# Altium integrated library Linear Technology Power Management PMIC Multifunction.IntLib: 360 symbols (part 9 of 42)
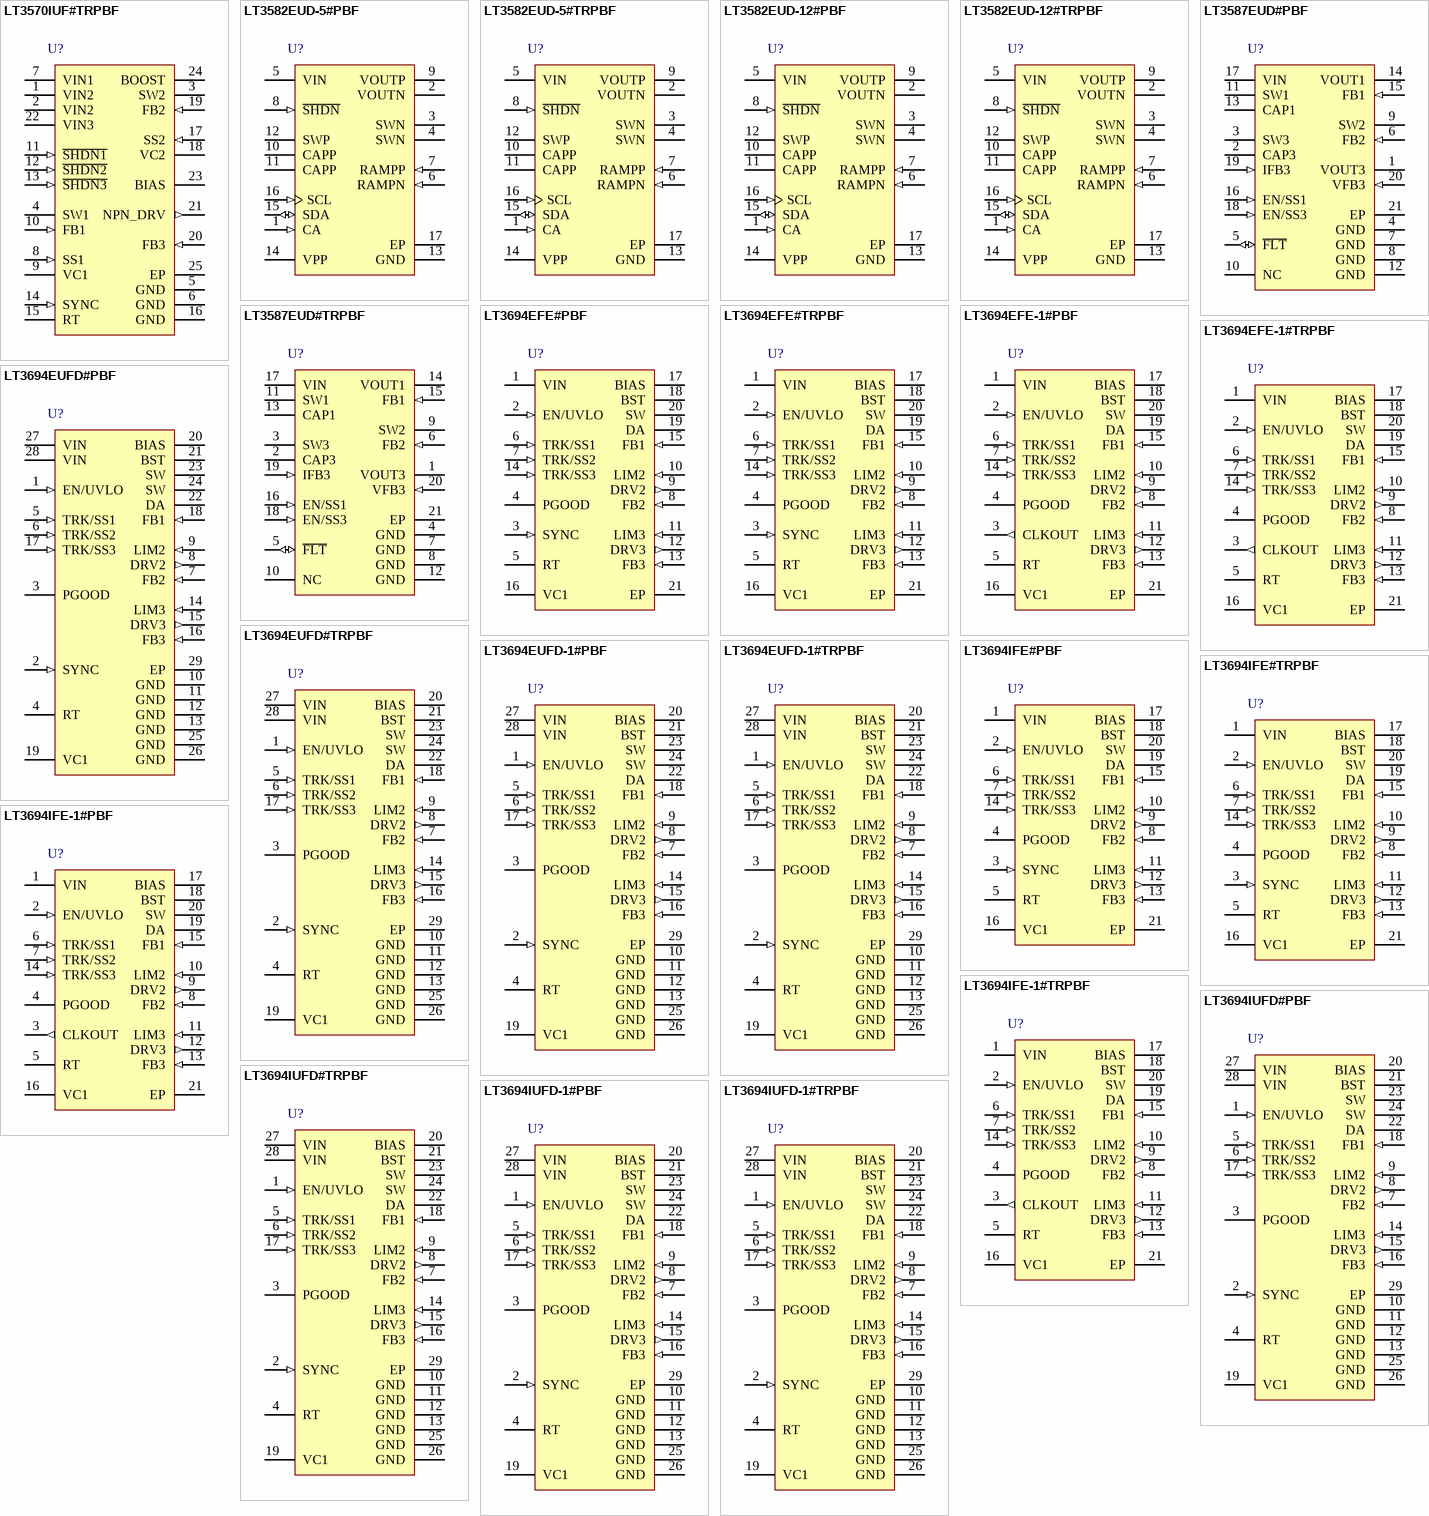
[diagram p26: symbols LT3570IUF#TRPBF to LT3694IUFD-1#TRPBF]

## LT3582EUD-12#TRPBF
designator U?
I2C Programmable Boost and Single Inductor Inverting DC/DC Converter with OTP, 2.475 to 5.5 V Vin, 16-pin QFN (UD-16), -40 to 125 degC, Pb-Free, Tape and Reel; Manufacturer: Linear Technology; PartNumber: LT3582EUD-12#TRPBF; Number of Outputs: 2; Vin Max(V): 5.5; Vin Min(V): 2.475; DatasheetVersion: Rev. B; PackageVersion: Jun-10; PackageReference: UD-16; PackageDescription: 16-Pin Plastic QFN, Body 3 x 3 mm, Pitch 0.5 mm; Supplier 1: Digi-Key; Supplier Part Number 1: LT3582EUD-12#TRPBF-ND; Supplier 2: Newark; Supplier Part Number 2: 25R2867; Packing: Tape and Reel; RoHS: TRUE; Mounting Technology: Surface Mount; Code_JEDEC: MO-220; ComponentLink1Description: Manufacturer URL; ComponentLink1URL: http://www.linear.com/; ComponentLink2Description: Datasheet; ComponentLink2URL: linear.com/docs/en/datasheet/3582512fb.pdf; ComponentLink3Description: Package Specification; ComponentLink3URL: http://cds.linear.com/docs/en/packaging/QFN_16_05-08-1691.pdf
footprint LT-UD-16_N (QFN, 16-Leads, Body 3x3mm, Pitch 0.5mm, Thermal Pad 1.45x1.45mm, IPC Medium Density)
footprint LT-UD-16_L (QFN, 16-Leads, Body 3x3mm, Pitch 0.5mm, Thermal Pad 1.45x1.45mm, IPC High Density)
footprint LT-UD-16_M (QFN, 16-Leads, Body 3x3mm, Pitch 0.5mm, Thermal Pad 1.45x1.45mm, IPC Low Density)
pins: 1 CA (in) "I2C Address Select Pin. Tie this pin to VIN to set the 7-bit address to 0110 001. Tie to GND for 1000 101.", 2 VOUTN (power) "Negative Output Voltage Pin. When the converter is operating, this pin is regulated to the programmed negative output voltage. Place a ceramic capacitor from this pin to GND.", 3 SWN (power) "Negative Switching Node for the Inverting Converter. This is the drain of the internal PMOS power switch. Connect one end of the Inverting inductor to these pins. Keep the trace area on these pins as small as possible.", 4 SWN (power) "Negative Switching Node for the Inverting Converter. This is the drain of the internal PMOS power switch. Connect one end of the Inverting inductor to these pins. Keep the trace area on these pins as small as possible.", 5 VIN (power) "Input Supply Pin and Source of the PMOS Power Switch. This pin must be bypassed locally with a ceramic capacitor. The operating voltage range of this pin is 2.55V to 5.5V.", 6 RAMPN (in) "Soft-Start Ramp Pin for the Inverting Converter. Place a capacitor from this pin to GND. A programmable current of 1uA to 8uA (LT3582) or 1uA (LT3582-5/LT3582-12) charges this pin during start-up, limiting the ramp rate of (See Datasheet)", 7 RAMPP (in) "Soft-Start Ramp Pin for the Boost Converter. Place a capacitor from this pin to GND. A programmable current of 1uA to 8uA (LT3582) or 1uA (LT3582-5/LT3582-12) charges this pin during start-up, limiting the ramp rate of VOUTP.(See Datasheet)", 8 ~{SHDN} (in) "Shutdown Pin. Drive this pin to 1.1V or higher to enable the part. Drive to 0.3V or lower to shut down. Includes an integrated 222k pull-down resistor.", 9 VOUTP (power) "Output of the Boost Converter Output Disconnect Circuit. A ceramic capacitor should be placed from this node to GND. During shutdown, this pin is disconnected from the Boost network which allows this pin to discharge to GND, (See Datasheet)", 10 CAPP "Connect the Boost output capacitor from these pins to GND. During shutdown, the voltage on these pins will remain close to the input voltage due to the path through the Boost inductor and Schottky. During normal operation, (See Datasheet)", 11 CAPP "Connect the Boost output capacitor from these pins to GND. During shutdown, the voltage on these pins will remain close to the input voltage due to the path through the Boost inductor and Schottky. During normal operation, (See Datasheet)", 12 SWP (power) "Positive Switching Node for the Boost Converter. This is the drain of the internal NMOS power switch. Connect one end of the Boost inductor to this pin. Keep the trace area on this pin as small as possible.", 13 GND (power) "Ground Pin. Tie to a local ground plane. Proper PCB layout is required to achieve advertised performance; see the Applications Information section for more information.", 14 VPP (power) "Programming Voltage Pin. Drive this pin to 13-15V when programming the OTP memory. Float otherwise. A bypass capacitor should be placed from this node to GND if VPP is used for programming. If VPP falls below 13V during OTP (See Datasheet)", 15 SDA (io) "I2C Bidirectional Data Pin. Tie to GND or VIN if unused", 16 SCL (in) "I2C Clock Pin. Tie to GND or VIN if unused.", 17 EP (power) "Ground Pin. Tie to a local ground plane. Proper PCB layout is required to achieve advertised performance; see the Applications Information section for more information."

## LT3587EUD#PBF
designator U?
High Voltage Monolithic Inverter and Dual Boost, 2.5 to 6 V Vin, 20-pin QFN (UD-20), -40 to 125 degC, Pb-Free; Manufacturer: Linear Technology; PartNumber: LT3587EUD#PBF; Number of Outputs: 3; Vin Max(V): 6; Vin Min(V): 2.5; DatasheetVersion: Rev. C; PackageVersion: Rev. A, 06/2010; PackageReference: UD-20; PackageDescription: 20-Pin Plastic QFN, Body 3 x 3 mm, Pitch 0.4 mm; Supplier 1: Digi-Key; Supplier Part Number 1: LT3587EUD#PBF-ND; RoHS: TRUE; Mounting Technology: Surface Mount; ComponentLink1Description: Manufacturer URL; ComponentLink1URL: http://www.linear.com/; ComponentLink2Description: Datasheet; ComponentLink2URL: http://cds.linear.com/docs/en/datasheet/3587fc.pdf; ComponentLink3Description: Package Specification; ComponentLink3URL: http://cds.linear.com/docs/en/packaging/QFN_20_05-08-1720.pdf
footprint LT-UD-20_N (QFN, 20-Leads, Body 3.1x3.1mm, Pitch 0.4mm, Thermal Pad 1.65x1.65mm, IPC Medium Density)
footprint LT-UD-20_L (QFN, 20-Leads, Body 3.1x3.1mm, Pitch 0.4mm, Thermal Pad 1.65x1.65mm, IPC High Density)
footprint LT-UD-20_M (QFN, 20-Leads, Body 3.1x3.1mm, Pitch 0.4mm, Thermal Pad 1.65x1.65mm, IPC Low Density)
pins: 1 VOUT3 (power) "Boost3 Output Pin. This pin is the drain of an output disconnect PMOS transistor", 2 CAP3 "Boost3 Output Capacitor Pin. This pin is the source of an output PMOS disconnect. Connect a capacitor from this pin to ground.", 3 SW3 "Boost3 Switch Pin. Connect an inductor from this pin to VIN. Minimize trace area at this pin to  minimize EMI.", 4 GND (power) "Ground Pins.", 5 ~{FLT} (io) "Fault Pin. This pin is a bidirectional opendrain pull-down pin. This pin pulls low when any of the enabled outputs fall out of regulation for more than 16ms. Each output is ignored during start-up until its respective (See Datasheet)", 6 FB2 (in) "Inverter Output Voltage Feedback Pin. Connect a resistor RFB2 from this pin to the Inverter Output  (VNEG) such that:  RFB2 = |VNEG|/8uA Note that FB2 pin voltage is about 0V when in regulation.  There is an internal 153k (See Datasheet)", 7 GND (power) "Ground Pins.", 8 GND (power) "Ground Pins.", 9 SW2 "Inverter Switch Pin. Connect an inductor between this pin and VIN, as well as the ?ying capacitor from this pin to the anode of the lnverter ground return  diode. Minimize trace area at this pin to minimize EMI.", 10 NC "No Connect Pin. Leave open or connect to ground.", 11 SW1 "Boost1 Switch Pin. Connect an inductor from this pin to VIN. Minimize trace area at this pin to minimize EMI.", 12 GND (power) "Ground Pins.", 13 CAP1 "Boost1 Output Capacitor Pin. This pin is the source of an output PMOS disconnect. Connect a capacitor from this pin to ground.", 14 VOUT1 (power) "Boost1 Output Pin. This pin is the drain of an output disconnect PMOS transistor.", 15 FB1 (in) "Boost1 Output Voltage Feedback Pin. Connect a resistor RFB1 from this pin to VOUT1 (or CAP1) such that:  RFB1 = ((VVOUT1/1.22V) - 1) ? 88.5k There is an internal 88.5k resistor from the FB1 pin to ground.", 16 EN/SS1 (in) "Boost1/Inverter Shutdown and Soft-Start Pin. Boost1 and Inverter are enabled when the voltage on this pin is greater than 2.5V. They are disabled when the voltage is below 0.2V. An internal 1uA current source in conjunction (See Datasheet)", 17 VIN (power) "Input Supply Pin. Must be locally bypassed with an X5R or X7R type ceramic capacitor", 18 EN/SS3 (in) "Boost3 Shutdown and Soft-Start Pin. Boost3 is enabled when the voltage on this pin is greater than 2V. It is disabled when the voltage is below 0.2V. An  internal 1uA current source in conjunction with an external capacitor (See Datasheet)", 19 IFB3 (in) "Boost3 Output Current Programming Pin.", 20 VFB3 (in) "Boost3 Output Voltage Feedback Pin. Connect a resistor RVFB3 from this pin to VOUT3 (or CAP3) such that:  RVFB3 = ((VVOUT3/0.8V) - 1) ? 56.3k There is an internal 56.3k resistor from the VFB3 pin to  ground. In the curren(See Datasheet)", 21 EP (power) "Ground Pin. Connect to PCB ground plane. Ground plane connection through multiple vias under the package is recommended for optimum electrical and  thermal performance."

## LT3587EUD#TRPBF
designator U?
High Voltage Monolithic Inverter and Dual Boost, 2.5 to 6 V Vin, 20-pin QFN (UD-20), -40 to 125 degC, Pb-Free, Tape and Reel; Manufacturer: Linear Technology; PartNumber: LT3587EUD#TRPBF; Number of Outputs: 3; Vin Max(V): 6; Vin Min(V): 2.5; DatasheetVersion: Rev. C; PackageVersion: Rev. A, 06/2010; PackageReference: UD-20; PackageDescription: 20-Pin Plastic QFN, Body 3 x 3 mm, Pitch 0.4 mm; Supplier 1: Digi-Key; Supplier Part Number 1: LT3587EUD#TRPBF-ND; Packing: Tape and Reel; RoHS: TRUE; Mounting Technology: Surface Mount; ComponentLink1Description: Manufacturer URL; ComponentLink1URL: http://www.linear.com/; ComponentLink2Description: Datasheet; ComponentLink2URL: http://cds.linear.com/docs/en/datasheet/3587fc.pdf; ComponentLink3Description: Package Specification; ComponentLink3URL: http://cds.linear.com/docs/en/packaging/QFN_20_05-08-1720.pdf
footprint LT-UD-20_N (QFN, 20-Leads, Body 3.1x3.1mm, Pitch 0.4mm, Thermal Pad 1.65x1.65mm, IPC Medium Density)
footprint LT-UD-20_L (QFN, 20-Leads, Body 3.1x3.1mm, Pitch 0.4mm, Thermal Pad 1.65x1.65mm, IPC High Density)
footprint LT-UD-20_M (QFN, 20-Leads, Body 3.1x3.1mm, Pitch 0.4mm, Thermal Pad 1.65x1.65mm, IPC Low Density)
pins: 1 VOUT3 (power) "Boost3 Output Pin. This pin is the drain of an output disconnect PMOS transistor", 2 CAP3 "Boost3 Output Capacitor Pin. This pin is the source of an output PMOS disconnect. Connect a capacitor from this pin to ground.", 3 SW3 "Boost3 Switch Pin. Connect an inductor from this pin to VIN. Minimize trace area at this pin to  minimize EMI.", 4 GND (power) "Ground Pins.", 5 ~{FLT} (io) "Fault Pin. This pin is a bidirectional opendrain pull-down pin. This pin pulls low when any of the enabled outputs fall out of regulation for more than 16ms. Each output is ignored during start-up until its respective (See Datasheet)", 6 FB2 (in) "Inverter Output Voltage Feedback Pin. Connect a resistor RFB2 from this pin to the Inverter Output  (VNEG) such that:  RFB2 = |VNEG|/8uA Note that FB2 pin voltage is about 0V when in regulation.  There is an internal 153k (See Datasheet)", 7 GND (power) "Ground Pins.", 8 GND (power) "Ground Pins.", 9 SW2 "Inverter Switch Pin. Connect an inductor between this pin and VIN, as well as the ?ying capacitor from this pin to the anode of the lnverter ground return  diode. Minimize trace area at this pin to minimize EMI.", 10 NC "No Connect Pin. Leave open or connect to ground.", 11 SW1 "Boost1 Switch Pin. Connect an inductor from this pin to VIN. Minimize trace area at this pin to minimize EMI.", 12 GND (power) "Ground Pins.", 13 CAP1 "Boost1 Output Capacitor Pin. This pin is the source of an output PMOS disconnect. Connect a capacitor from this pin to ground.", 14 VOUT1 (power) "Boost1 Output Pin. This pin is the drain of an output disconnect PMOS transistor.", 15 FB1 (in) "Boost1 Output Voltage Feedback Pin. Connect a resistor RFB1 from this pin to VOUT1 (or CAP1) such that:  RFB1 = ((VVOUT1/1.22V) - 1) ? 88.5k There is an internal 88.5k resistor from the FB1 pin to ground.", 16 EN/SS1 (in) "Boost1/Inverter Shutdown and Soft-Start Pin. Boost1 and Inverter are enabled when the voltage on this pin is greater than 2.5V. They are disabled when the voltage is below 0.2V. An internal 1uA current source in conjunction (See Datasheet)", 17 VIN (power) "Input Supply Pin. Must be locally bypassed with an X5R or X7R type ceramic capacitor", 18 EN/SS3 (in) "Boost3 Shutdown and Soft-Start Pin. Boost3 is enabled when the voltage on this pin is greater than 2V. It is disabled when the voltage is below 0.2V. An  internal 1uA current source in conjunction with an external capacitor (See Datasheet)", 19 IFB3 (in) "Boost3 Output Current Programming Pin.", 20 VFB3 (in) "Boost3 Output Voltage Feedback Pin. Connect a resistor RVFB3 from this pin to VOUT3 (or CAP3) such that:  RVFB3 = ((VVOUT3/0.8V) - 1) ? 56.3k There is an internal 56.3k resistor from the VFB3 pin to  ground. In the curren(See Datasheet)", 21 EP (power) "Ground Pin. Connect to PCB ground plane. Ground plane connection through multiple vias under the package is recommended for optimum electrical and  thermal performance."

## LT3694EFE#PBF
designator U?
2.6 A Monolithic Buck Regulator with Dual LDO, 4 to 36 V Vin, 20-pin SOP (FE-20-EPV-CB), -40 to 125 degC, Pb-Free; Manufacturer: Linear Technology; PartNumber: LT3694EFE#PBF; Number of Outputs: 3; Vin Max(V): 36; Vin Min(V): 4; DatasheetVersion: Rev. B; PackageVersion: Rev. I, 05/2011; PackageReference: FE-20; PackageDescription: 20-Pin Plastic TSSOP, Body 6.5 x 4.4 mm, Pitch 0.65 mm; Supplier 1: Digi-Key; Supplier Part Number 1: LT3694EFE#PBF-ND; Supplier 2: Farnell; Supplier Part Number 2: 1868080; Supplier 3: Newark; Supplier Part Number 3: 13T8526; RoHS: TRUE; Mounting Technology: Surface Mount; ComponentLink1Description: Manufacturer URL; ComponentLink1URL: http://www.linear.com/; ComponentLink2Description: Datasheet; ComponentLink2URL: http://cds.linear.com/docs/en/datasheet/36941fb.pdf; ComponentLink3Description: Package Specification; ComponentLink3URL: http://cds.linear.com/docs/en/packaging/05081663__J_FE20(CB).pdf
footprint LT-FE-20-EPV-CB_N (SOP, 20-Leads, Body 6.6x4.5mm, Pitch 0.65mm, Thermal Pad 3.86x2.74mm, IPC Medium Density)
footprint LT-FE-20-EPV-CB_L (SOP, 20-Leads, Body 6.6x4.5mm, Pitch 0.65mm, Thermal Pad 3.86x2.74mm, IPC High Density)
footprint LT-FE-20-EPV-CB_M (SOP, 20-Leads, Body 6.6x4.5mm, Pitch 0.65mm, Thermal Pad 3.86x2.74mm, IPC Low Density)
pins: 1 VIN (power) "The VIN pin supplies power to the internal switch of the 2.6A regulator and to the LT3694’s internal reference and start-up circuitry. This pin must be locally bypassed.", 2 EN/UVLO (in) "The EN/UVLO pin is used to shut down the LT3694. It can be driven from a logic level or used as an undervoltage lockout by connecting a resistor divider from VIN.", 3 SYNC (in) "Frequency Synchronization Input. Connect a frequency source to this input if synchronization is desired. Connect SYNC to ground if not used (LT3694 only).", 4 PGOOD (oc) "Open Collector Output. PGOOD is pulled low when any of the three regulators drops out of regulation (VFB < 90% of nominal value).", 5 RT "The RT pin requires a resistor to ground to set the operating frequency of the LT3694. If synchronizing the LT3694 to an external clock, the resistor should be set to program the frequency at least 20% below the (See Datasheet)", 6 TRK/SS1 (in) "The TRK/SS pins allow a regulator to track the output of another regulator. When the TRK/SS pin is below 0.75V, the FB pin regulates to the TRK/SS voltage. This pin can also be used as a soft-start by connecting a capacitor (See Datasheet)", 7 TRK/SS2 (in) "The TRK/SS pins allow a regulator to track the output of another regulator. When the TRK/SS pin is below 0.75V, the FB pin regulates to the TRK/SS voltage. This pin can also be used as a soft-start by connecting a capacitor (See Datasheet)", 8 FB2 (in) "Negative Inputs of the Error Amplifiers. The LT3694 regulates each feedback pin to the lesser of 0.75V or the corresponding TRK/SS pin voltage. Connect the feedback resistor divider taps to these pins.", 9 DRV2 (out) "The DRV pins provide the base drive for the external NPN transistors for the LDO regulators. The DRV pins can provide up to 6V of base drive.", 10 LIM2 (in) "The LIM pins provide current limiting on the LDO pass transistors by sensing a voltage on an external sense resistor connected to the BIAS pin. These pins should be connected to BIAS if this function is not used.", 11 LIM3 (in) "The LIM pins provide current limiting on the LDO pass transistors by sensing a voltage on an external sense resistor connected to the BIAS pin. These pins should be connected to BIAS if this function is not used.", 12 DRV3 (out) "The DRV pins provide the base drive for the external NPN transistors for the LDO regulators. The DRV pins can provide up to 6V of base drive.", 13 FB3 (in) "Negative Inputs of the Error Amplifiers. The LT3694 regulates each feedback pin to the lesser of 0.75V or the corresponding TRK/SS pin voltage. Connect the feedback resistor divider taps to these pins.", 14 TRK/SS3 (in) "The TRK/SS pins allow a regulator to track the output of another regulator. When the TRK/SS pin is below 0.75V, the FB pin regulates to the TRK/SS voltage. This pin can also be used as a soft-start by connecting a capacitor (See Datasheet)", 15 FB1 (in) "Negative Inputs of the Error Amplifiers. The LT3694 regulates each feedback pin to the lesser of 0.75V or the corresponding TRK/SS pin voltage. Connect the feedback resistor divider taps to these pins.", 16 VC1 "Output of the Internal Error Amp. The voltage on this pin controls the peak switch current. This pin is normally used to compensate the control loop. The switching regulator can be shut down by pulling the VC1 pin to ground (See Datasheet)", 17 BIAS (power) "The BIAS pin supplies the current to the LT3694’s internal regulator and boost circuits. This must be connected to a voltage source above 3V, usually to VOUT1. The LDO pass transistor base current will also come from th(See Datasheet)", 18 BST "The BST pin is used to provide a drive voltage, higher than the input voltage, to the internal bipolar NPN power switch.", 19 DA "The DA pin senses the catch diode current to prevent excessive inductor current in output overload or short-circuit conditions.", 20 SW (power) "Output of the Internal Power Switch. Connect this pin to the inductor and switching diode.", 21 EP (power) "Ground. The underside exposed pad metal of the package provides both electrical contact to ground and a conductive thermal path to the printed circuit board. The Exposed Pad must be soldered to a grounded pad on the circuit (See Datasheet)"

## LT3694EFE#TRPBF
designator U?
2.6 A Monolithic Buck Regulator with Dual LDO, 4 to 36 V Vin, 20-pin SOP (FE-20-EPV-CB), -40 to 125 degC, Pb-Free, Tape and Reel; Manufacturer: Linear Technology; PartNumber: LT3694EFE#TRPBF; Number of Outputs: 3; Vin Max(V): 36; Vin Min(V): 4; DatasheetVersion: Rev. B; PackageVersion: Rev. I, 05/2011; PackageReference: FE-20; PackageDescription: 20-Pin Plastic TSSOP, Body 6.5 x 4.4 mm, Pitch 0.65 mm; Supplier 1: Digi-Key; Supplier Part Number 1: LT3694EFE#TRPBF-ND; Packing: Tape and Reel; RoHS: TRUE; Mounting Technology: Surface Mount; ComponentLink1Description: Manufacturer URL; ComponentLink1URL: http://www.linear.com/; ComponentLink2Description: Datasheet; ComponentLink2URL: http://cds.linear.com/docs/en/datasheet/36941fb.pdf; ComponentLink3Description: Package Specification; ComponentLink3URL: http://cds.linear.com/docs/en/packaging/05081663__J_FE20(CB).pdf
footprint LT-FE-20-EPV-CB_N (SOP, 20-Leads, Body 6.6x4.5mm, Pitch 0.65mm, Thermal Pad 3.86x2.74mm, IPC Medium Density)
footprint LT-FE-20-EPV-CB_L (SOP, 20-Leads, Body 6.6x4.5mm, Pitch 0.65mm, Thermal Pad 3.86x2.74mm, IPC High Density)
footprint LT-FE-20-EPV-CB_M (SOP, 20-Leads, Body 6.6x4.5mm, Pitch 0.65mm, Thermal Pad 3.86x2.74mm, IPC Low Density)
pins: 1 VIN (power) "The VIN pin supplies power to the internal switch of the 2.6A regulator and to the LT3694’s internal reference and start-up circuitry. This pin must be locally bypassed.", 2 EN/UVLO (in) "The EN/UVLO pin is used to shut down the LT3694. It can be driven from a logic level or used as an undervoltage lockout by connecting a resistor divider from VIN.", 3 SYNC (in) "Frequency Synchronization Input. Connect a frequency source to this input if synchronization is desired. Connect SYNC to ground if not used (LT3694 only).", 4 PGOOD (oc) "Open Collector Output. PGOOD is pulled low when any of the three regulators drops out of regulation (VFB < 90% of nominal value).", 5 RT "The RT pin requires a resistor to ground to set the operating frequency of the LT3694. If synchronizing the LT3694 to an external clock, the resistor should be set to program the frequency at least 20% below the (See Datasheet)", 6 TRK/SS1 (in) "The TRK/SS pins allow a regulator to track the output of another regulator. When the TRK/SS pin is below 0.75V, the FB pin regulates to the TRK/SS voltage. This pin can also be used as a soft-start by connecting a capacitor (See Datasheet)", 7 TRK/SS2 (in) "The TRK/SS pins allow a regulator to track the output of another regulator. When the TRK/SS pin is below 0.75V, the FB pin regulates to the TRK/SS voltage. This pin can also be used as a soft-start by connecting a capacitor (See Datasheet)", 8 FB2 (in) "Negative Inputs of the Error Amplifiers. The LT3694 regulates each feedback pin to the lesser of 0.75V or the corresponding TRK/SS pin voltage. Connect the feedback resistor divider taps to these pins.", 9 DRV2 (out) "The DRV pins provide the base drive for the external NPN transistors for the LDO regulators. The DRV pins can provide up to 6V of base drive.", 10 LIM2 (in) "The LIM pins provide current limiting on the LDO pass transistors by sensing a voltage on an external sense resistor connected to the BIAS pin. These pins should be connected to BIAS if this function is not used.", 11 LIM3 (in) "The LIM pins provide current limiting on the LDO pass transistors by sensing a voltage on an external sense resistor connected to the BIAS pin. These pins should be connected to BIAS if this function is not used.", 12 DRV3 (out) "The DRV pins provide the base drive for the external NPN transistors for the LDO regulators. The DRV pins can provide up to 6V of base drive.", 13 FB3 (in) "Negative Inputs of the Error Amplifiers. The LT3694 regulates each feedback pin to the lesser of 0.75V or the corresponding TRK/SS pin voltage. Connect the feedback resistor divider taps to these pins.", 14 TRK/SS3 (in) "The TRK/SS pins allow a regulator to track the output of another regulator. When the TRK/SS pin is below 0.75V, the FB pin regulates to the TRK/SS voltage. This pin can also be used as a soft-start by connecting a capacitor (See Datasheet)", 15 FB1 (in) "Negative Inputs of the Error Amplifiers. The LT3694 regulates each feedback pin to the lesser of 0.75V or the corresponding TRK/SS pin voltage. Connect the feedback resistor divider taps to these pins.", 16 VC1 "Output of the Internal Error Amp. The voltage on this pin controls the peak switch current. This pin is normally used to compensate the control loop. The switching regulator can be shut down by pulling the VC1 pin to ground (See Datasheet)", 17 BIAS (power) "The BIAS pin supplies the current to the LT3694’s internal regulator and boost circuits. This must be connected to a voltage source above 3V, usually to VOUT1. The LDO pass transistor base current will also come from th(See Datasheet)", 18 BST "The BST pin is used to provide a drive voltage, higher than the input voltage, to the internal bipolar NPN power switch.", 19 DA "The DA pin senses the catch diode current to prevent excessive inductor current in output overload or short-circuit conditions.", 20 SW (power) "Output of the Internal Power Switch. Connect this pin to the inductor and switching diode.", 21 EP (power) "Ground. The underside exposed pad metal of the package provides both electrical contact to ground and a conductive thermal path to the printed circuit board. The Exposed Pad must be soldered to a grounded pad on the circuit (See Datasheet)"

## LT3694EFE-1#PBF
designator U?
2.6 A Monolithic Buck Regulator with Dual LDO, 4 to 36 V Vin, 20-pin SOP (FE-20-EPV-CB), -40 to 125 degC, Pb-Free; Manufacturer: Linear Technology; PartNumber: LT3694EFE-1#PBF; Number of Outputs: 3; Vin Max(V): 36; Vin Min(V): 4; DatasheetVersion: Rev. B; PackageVersion: Rev. I, 05/2011; PackageReference: FE-20; PackageDescription: 20-Pin Plastic TSSOP, Body 6.5 x 4.4 mm, Pitch 0.65 mm; Supplier 1: Digi-Key; Supplier Part Number 1: LT3694EFE-1#PBF-ND; Supplier 2: Farnell; Supplier Part Number 2: 1868079; Supplier 3: Newark; Supplier Part Number 3: 13T8524; RoHS: TRUE; Mounting Technology: Surface Mount; ComponentLink1Description: Manufacturer URL; ComponentLink1URL: http://www.linear.com/; ComponentLink2Description: Datasheet; ComponentLink2URL: http://cds.linear.com/docs/en/datasheet/36941fb.pdf; ComponentLink3Description: Package Specification; ComponentLink3URL: http://cds.linear.com/docs/en/packaging/05081663__J_FE20(CB).pdf
footprint LT-FE-20-EPV-CB_N (SOP, 20-Leads, Body 6.6x4.5mm, Pitch 0.65mm, Thermal Pad 3.86x2.74mm, IPC Medium Density)
footprint LT-FE-20-EPV-CB_L (SOP, 20-Leads, Body 6.6x4.5mm, Pitch 0.65mm, Thermal Pad 3.86x2.74mm, IPC High Density)
footprint LT-FE-20-EPV-CB_M (SOP, 20-Leads, Body 6.6x4.5mm, Pitch 0.65mm, Thermal Pad 3.86x2.74mm, IPC Low Density)
pins: 1 VIN (power) "The VIN pin supplies power to the internal switch of the 2.6A regulator and to the LT3694’s internal reference and start-up circuitry. This pin must be locally bypassed.", 2 EN/UVLO (in) "The EN/UVLO pin is used to shut down the LT3694. It can be driven from a logic level or used as an undervoltage lockout by connecting a resistor divider from VIN.", 3 CLKOUT (out) "Digital Clock Output. The CLKOUT pin allows synchronization of other switching regulators (LT3694-1 only).", 4 PGOOD (oc) "Open Collector Output. PGOOD is pulled low when any of the three regulators drops out of regulation (VFB < 90% of nominal value).", 5 RT "The RT pin requires a resistor to ground to set the operating frequency of the LT3694. If synchronizing the LT3694 to an external clock, the resistor should be set to program the frequency at least 20% below the (See Datasheet)", 6 TRK/SS1 (in) "The TRK/SS pins allow a regulator to track the output of another regulator. When the TRK/SS pin is below 0.75V, the FB pin regulates to the TRK/SS voltage. This pin can also be used as a soft-start by connecting a capacitor (See Datasheet)", 7 TRK/SS2 (in) "The TRK/SS pins allow a regulator to track the output of another regulator. When the TRK/SS pin is below 0.75V, the FB pin regulates to the TRK/SS voltage. This pin can also be used as a soft-start by connecting a capacitor (See Datasheet)", 8 FB2 (in) "Negative Inputs of the Error Amplifiers. The LT3694 regulates each feedback pin to the lesser of 0.75V or the corresponding TRK/SS pin voltage. Connect the feedback resistor divider taps to these pins.", 9 DRV2 (out) "The DRV pins provide the base drive for the external NPN transistors for the LDO regulators. The DRV pins can provide up to 6V of base drive.", 10 LIM2 (in) "The LIM pins provide current limiting on the LDO pass transistors by sensing a voltage on an external sense resistor connected to the BIAS pin. These pins should be connected to BIAS if this function is not used.", 11 LIM3 (in) "The LIM pins provide current limiting on the LDO pass transistors by sensing a voltage on an external sense resistor connected to the BIAS pin. These pins should be connected to BIAS if this function is not used.", 12 DRV3 (out) "The DRV pins provide the base drive for the external NPN transistors for the LDO regulators. The DRV pins can provide up to 6V of base drive.", 13 FB3 (in) "Negative Inputs of the Error Amplifiers. The LT3694 regulates each feedback pin to the lesser of 0.75V or the corresponding TRK/SS pin voltage. Connect the feedback resistor divider taps to these pins.", 14 TRK/SS3 (in) "The TRK/SS pins allow a regulator to track the output of another regulator. When the TRK/SS pin is below 0.75V, the FB pin regulates to the TRK/SS voltage. This pin can also be used as a soft-start by connecting a capacitor (See Datasheet)", 15 FB1 (in) "Negative Inputs of the Error Amplifiers. The LT3694 regulates each feedback pin to the lesser of 0.75V or the corresponding TRK/SS pin voltage. Connect the feedback resistor divider taps to these pins.", 16 VC1 "Output of the Internal Error Amp. The voltage on this pin controls the peak switch current. This pin is normally used to compensate the control loop. The switching regulator can be shut down by pulling the VC1 pin to ground (See Datasheet)", 17 BIAS (power) "The BIAS pin supplies the current to the LT3694’s internal regulator and boost circuits. This must be connected to a voltage source above 3V, usually to VOUT1. The LDO pass transistor base current will also come from th(See Datasheet)", 18 BST "The BST pin is used to provide a drive voltage, higher than the input voltage, to the internal bipolar NPN power switch.", 19 DA "The DA pin senses the catch diode current to prevent excessive inductor current in output overload or short-circuit conditions.", 20 SW (power) "Output of the Internal Power Switch. Connect this pin to the inductor and switching diode.", 21 EP (power) "Ground. The underside exposed pad metal of the package provides both electrical contact to ground and a conductive thermal path to the printed circuit board. The Exposed Pad must be soldered to a grounded pad on the circuit (See Datasheet)"

## LT3694EFE-1#TRPBF
designator U?
2.6 A Monolithic Buck Regulator with Dual LDO, 4 to 36 V Vin, 20-pin SOP (FE-20-EPV-CB), -40 to 125 degC, Pb-Free, Tape and Reel; Manufacturer: Linear Technology; PartNumber: LT3694EFE-1#TRPBF; Number of Outputs: 3; Vin Max(V): 36; Vin Min(V): 4; DatasheetVersion: Rev. B; PackageVersion: Rev. I, 05/2011; PackageReference: FE-20; PackageDescription: 20-Pin Plastic TSSOP, Body 6.5 x 4.4 mm, Pitch 0.65 mm; Supplier 1: Digi-Key; Supplier Part Number 1: LT3694EFE-1#TRPBF-ND; Packing: Tape and Reel; RoHS: TRUE; Mounting Technology: Surface Mount; ComponentLink1Description: Manufacturer URL; ComponentLink1URL: http://www.linear.com/; ComponentLink2Description: Datasheet; ComponentLink2URL: http://cds.linear.com/docs/en/datasheet/36941fb.pdf; ComponentLink3Description: Package Specification; ComponentLink3URL: http://cds.linear.com/docs/en/packaging/05081663__J_FE20(CB).pdf
footprint LT-FE-20-EPV-CB_N (SOP, 20-Leads, Body 6.6x4.5mm, Pitch 0.65mm, Thermal Pad 3.86x2.74mm, IPC Medium Density)
footprint LT-FE-20-EPV-CB_L (SOP, 20-Leads, Body 6.6x4.5mm, Pitch 0.65mm, Thermal Pad 3.86x2.74mm, IPC High Density)
footprint LT-FE-20-EPV-CB_M (SOP, 20-Leads, Body 6.6x4.5mm, Pitch 0.65mm, Thermal Pad 3.86x2.74mm, IPC Low Density)
pins: 1 VIN (power) "The VIN pin supplies power to the internal switch of the 2.6A regulator and to the LT3694’s internal reference and start-up circuitry. This pin must be locally bypassed.", 2 EN/UVLO (in) "The EN/UVLO pin is used to shut down the LT3694. It can be driven from a logic level or used as an undervoltage lockout by connecting a resistor divider from VIN.", 3 CLKOUT (out) "Digital Clock Output. The CLKOUT pin allows synchronization of other switching regulators (LT3694-1 only).", 4 PGOOD (oc) "Open Collector Output. PGOOD is pulled low when any of the three regulators drops out of regulation (VFB < 90% of nominal value).", 5 RT "The RT pin requires a resistor to ground to set the operating frequency of the LT3694. If synchronizing the LT3694 to an external clock, the resistor should be set to program the frequency at least 20% below the (See Datasheet)", 6 TRK/SS1 (in) "The TRK/SS pins allow a regulator to track the output of another regulator. When the TRK/SS pin is below 0.75V, the FB pin regulates to the TRK/SS voltage. This pin can also be used as a soft-start by connecting a capacitor (See Datasheet)", 7 TRK/SS2 (in) "The TRK/SS pins allow a regulator to track the output of another regulator. When the TRK/SS pin is below 0.75V, the FB pin regulates to the TRK/SS voltage. This pin can also be used as a soft-start by connecting a capacitor (See Datasheet)", 8 FB2 (in) "Negative Inputs of the Error Amplifiers. The LT3694 regulates each feedback pin to the lesser of 0.75V or the corresponding TRK/SS pin voltage. Connect the feedback resistor divider taps to these pins.", 9 DRV2 (out) "The DRV pins provide the base drive for the external NPN transistors for the LDO regulators. The DRV pins can provide up to 6V of base drive.", 10 LIM2 (in) "The LIM pins provide current limiting on the LDO pass transistors by sensing a voltage on an external sense resistor connected to the BIAS pin. These pins should be connected to BIAS if this function is not used.", 11 LIM3 (in) "The LIM pins provide current limiting on the LDO pass transistors by sensing a voltage on an external sense resistor connected to the BIAS pin. These pins should be connected to BIAS if this function is not used.", 12 DRV3 (out) "The DRV pins provide the base drive for the external NPN transistors for the LDO regulators. The DRV pins can provide up to 6V of base drive.", 13 FB3 (in) "Negative Inputs of the Error Amplifiers. The LT3694 regulates each feedback pin to the lesser of 0.75V or the corresponding TRK/SS pin voltage. Connect the feedback resistor divider taps to these pins.", 14 TRK/SS3 (in) "The TRK/SS pins allow a regulator to track the output of another regulator. When the TRK/SS pin is below 0.75V, the FB pin regulates to the TRK/SS voltage. This pin can also be used as a soft-start by connecting a capacitor (See Datasheet)", 15 FB1 (in) "Negative Inputs of the Error Amplifiers. The LT3694 regulates each feedback pin to the lesser of 0.75V or the corresponding TRK/SS pin voltage. Connect the feedback resistor divider taps to these pins.", 16 VC1 "Output of the Internal Error Amp. The voltage on this pin controls the peak switch current. This pin is normally used to compensate the control loop. The switching regulator can be shut down by pulling the VC1 pin to ground (See Datasheet)", 17 BIAS (power) "The BIAS pin supplies the current to the LT3694’s internal regulator and boost circuits. This must be connected to a voltage source above 3V, usually to VOUT1. The LDO pass transistor base current will also come from th(See Datasheet)", 18 BST "The BST pin is used to provide a drive voltage, higher than the input voltage, to the internal bipolar NPN power switch.", 19 DA "The DA pin senses the catch diode current to prevent excessive inductor current in output overload or short-circuit conditions.", 20 SW (power) "Output of the Internal Power Switch. Connect this pin to the inductor and switching diode.", 21 EP (power) "Ground. The underside exposed pad metal of the package provides both electrical contact to ground and a conductive thermal path to the printed circuit board. The Exposed Pad must be soldered to a grounded pad on the circuit (See Datasheet)"

## LT3694EUFD#PBF
designator U?
2.6 A Monolithic Buck Regulator with Dual LDO, 4 to 36 V Vin, 28-pin QFN (UFD-28), -40 to 125 degC, Pb-Free; Manufacturer: Linear Technology; PartNumber: LT3694EUFD#PBF; Number of Outputs: 3; Vin Max(V): 36; Vin Min(V): 4; DatasheetVersion: Rev. B; PackageVersion: Rev. B, 06/2010; PackageReference: UFD-28; PackageDescription: 28-Pin Plastic QFN, Body 5 x 4 mm, Pitch 0.5 mm; Supplier 1: Digi-Key; Supplier Part Number 1: LT3694EUFD#PBF-ND; Supplier 2: Farnell; Supplier Part Number 2: 1868083; Supplier 3: Newark; Supplier Part Number 3: 13T8530; RoHS: TRUE; Mounting Technology: Surface Mount; Code_JEDEC: MO-220; ComponentLink1Description: Manufacturer URL; ComponentLink1URL: http://www.linear.com/; ComponentLink2Description: Datasheet; ComponentLink2URL: http://cds.linear.com/docs/en/datasheet/36941fb.pdf; ComponentLink3Description: Package Specification; ComponentLink3URL: http://cds.linear.com/docs/en/packaging/QFN_28_05-08-1712.pdf
footprint LT-UFD-28_N (QFN, 28-Leads, Body 5.1x4.1mm, Pitch 0.5mm, Thermal Pad 3.65x2.65mm, IPC Medium Density)
footprint LT-UFD-28_L (QFN, 28-Leads, Body 5.1x4.1mm, Pitch 0.5mm, Thermal Pad 3.65x2.65mm, IPC High Density)
footprint LT-UFD-28_M (QFN, 28-Leads, Body 5.1x4.1mm, Pitch 0.5mm, Thermal Pad 3.65x2.65mm, IPC Low Density)
pins: 1 EN/UVLO (in) "The EN/UVLO pin is used to shut down the LT3694. It can be driven from a logic level or used as an undervoltage lockout by connecting a resistor divider from VIN.", 2 SYNC (in) "Frequency Synchronization Input. Connect a frequency source to this input if synchronization is desired. Connect SYNC to ground if not used", 3 PGOOD (oc) "Open Collector Output. PGOOD is pulled low when any of the three regulators drops out of regulation (VFB < 90% of nominal value).", 4 RT "The RT pin requires a resistor to ground to set the operating frequency of the LT3694. If synchronizing the LT3694 to an external clock, the resistor should be set to program the frequency at least 20% below the (See Datasheet)", 5 TRK/SS1 (in) "The TRK/SS pins allow a regulator to track the output of another regulator. When the TRK/SS pin is below 0.75V, the FB pin regulates to the TRK/SS voltage. This pin can also be used as a soft-start by connecting a capacitor (See Datasheet)", 6 TRK/SS2 (in) "The TRK/SS pins allow a regulator to track the output of another regulator. When the TRK/SS pin is below 0.75V, the FB pin regulates to the TRK/SS voltage. This pin can also be used as a soft-start by connecting a capacitor (See Datasheet)", 7 FB2 (in) "Negative Inputs of the Error Amplifiers. The LT3694 regulates each feedback pin to the lesser of 0.75V or the corresponding TRK/SS pin voltage. Connect the feedback resistor divider taps to these pins.", 8 DRV2 (out) "The DRV pins provide the base drive for the external NPN transistorfor the LDO regulators. The DRV pins can provide up to 6V of base drive.", 9 LIM2 (in) "The LIM pins provide current limiting on the LDO pass transistors by sensing a voltage on an external sense resistor connected to the BIAS pin. These pins should be connected to BIAS if this function is not used.", 10 GND (power) "Power and Signal Ground.", 11 GND (power) "Power and Signal Ground.", 12 GND (power) "Power and Signal Ground.", 13 GND (power) "Power and Signal Ground.", 14 LIM3 (in) "The LIM pins provide current limiting on the LDO pass transistors by sensing a voltage on an external sense resistor connected to the BIAS pin. These pins should be connected to BIAS if this function is not used.", 15 DRV3 (out) "The DRV pins provide the base drive for the external NPN transistorfor the LDO regulators. The DRV pins can provide up to 6V of base drive.", 16 FB3 (in) "Negative Inputs of the Error Amplifiers. The LT3694 regulates each feedback pin to the lesser of 0.75V or the corresponding TRK/SS pin voltage. Connect the feedback resistor divider taps to these pins.", 17 TRK/SS3 (in) "The TRK/SS pins allow a regulator to track the output of another regulator. When the TRK/SS pin is below 0.75V, the FB pin regulates to the TRK/SS voltage. This pin can also be used as a soft-start by connecting a capacitor (See Datasheet)", 18 FB1 (in) "Negative Inputs of the Error Amplifiers. The LT3694 regulates each feedback pin to the lesser of 0.75V or the corresponding TRK/SS pin voltage. Connect the feedback resistor divider taps to these pins.", 19 VC1 "Output of the Internal Error Amp. The voltage on this pin controls the peak switch current. This pin is normally used to compensate the control loop. The switching regulator can be shut down by pulling the VC1 pin to ground (See Datasheet)", 20 BIAS (power) "The BIAS pin supplies the current to the LT3694’s internal regulator and boost circuits. This must be connected to a voltage source above 3V, usually to VOUT1. The LDO pass transistor base current will also come from th(See Datasheet)", 21 BST "The BST pin is used to provide a drive voltage, higher than the input voltage, to the internal bipolar NPN power switch.", 22 DA "The DA pin senses the catch diode current to prevent excessive inductor current in output overload or short-circuit conditions.", 23 SW (power) "Output of the Internal Power Switch. Connect this pin to the inductor and switching diode.", 24 SW (power) "Output of the Internal Power Switch. Connect this pin to the inductor and switching diode.", 25 GND (power) "Power and Signal Ground.", 26 GND (power) "Power and Signal Ground.", 27 VIN (power) "The VIN pin supplies power to the internal switch of the 2.6A regulator and to the LT3694’s internal reference and start-up circuitry. This pin must be locally bypassed.", 28 VIN (power) "The VIN pin supplies power to the internal switch of the 2.6A regulator and to the LT3694’s internal reference and start-up circuitry. This pin must be locally bypassed.", 29 EP (power) "Ground. The underside exposed pad metal of the package provides both electrical contact to ground and a conductive thermal path to the printed circuit board. The Exposed Pad must be soldered to a grounded pad on the circuit (See Datasheet)"

## LT3694EUFD#TRPBF
designator U?
2.6 A Monolithic Buck Regulator with Dual LDO, 4 to 36 V Vin, 28-pin QFN (UFD-28), -40 to 125 degC, Pb-Free, Tape and Reel; Manufacturer: Linear Technology; PartNumber: LT3694EUFD#TRPBF; Number of Outputs: 3; Vin Max(V): 36; Vin Min(V): 4; DatasheetVersion: Rev. B; PackageVersion: Rev. B, 06/2010; PackageReference: UFD-28; PackageDescription: 28-Pin Plastic QFN, Body 5 x 4 mm, Pitch 0.5 mm; Supplier 1: Digi-Key; Supplier Part Number 1: LT3694EUFD#TRPBF-ND; Packing: Tape and Reel; RoHS: TRUE; Mounting Technology: Surface Mount; Code_JEDEC: MO-220; ComponentLink1Description: Manufacturer URL; ComponentLink1URL: http://www.linear.com/; ComponentLink2Description: Datasheet; ComponentLink2URL: http://cds.linear.com/docs/en/datasheet/36941fb.pdf; ComponentLink3Description: Package Specification; ComponentLink3URL: http://cds.linear.com/docs/en/packaging/QFN_28_05-08-1712.pdf
footprint LT-UFD-28_N (QFN, 28-Leads, Body 5.1x4.1mm, Pitch 0.5mm, Thermal Pad 3.65x2.65mm, IPC Medium Density)
footprint LT-UFD-28_L (QFN, 28-Leads, Body 5.1x4.1mm, Pitch 0.5mm, Thermal Pad 3.65x2.65mm, IPC High Density)
footprint LT-UFD-28_M (QFN, 28-Leads, Body 5.1x4.1mm, Pitch 0.5mm, Thermal Pad 3.65x2.65mm, IPC Low Density)
pins: 1 EN/UVLO (in) "The EN/UVLO pin is used to shut down the LT3694. It can be driven from a logic level or used as an undervoltage lockout by connecting a resistor divider from VIN.", 2 SYNC (in) "Frequency Synchronization Input. Connect a frequency source to this input if synchronization is desired. Connect SYNC to ground if not used", 3 PGOOD (oc) "Open Collector Output. PGOOD is pulled low when any of the three regulators drops out of regulation (VFB < 90% of nominal value).", 4 RT "The RT pin requires a resistor to ground to set the operating frequency of the LT3694. If synchronizing the LT3694 to an external clock, the resistor should be set to program the frequency at least 20% below the (See Datasheet)", 5 TRK/SS1 (in) "The TRK/SS pins allow a regulator to track the output of another regulator. When the TRK/SS pin is below 0.75V, the FB pin regulates to the TRK/SS voltage. This pin can also be used as a soft-start by connecting a capacitor (See Datasheet)", 6 TRK/SS2 (in) "The TRK/SS pins allow a regulator to track the output of another regulator. When the TRK/SS pin is below 0.75V, the FB pin regulates to the TRK/SS voltage. This pin can also be used as a soft-start by connecting a capacitor (See Datasheet)", 7 FB2 (in) "Negative Inputs of the Error Amplifiers. The LT3694 regulates each feedback pin to the lesser of 0.75V or the corresponding TRK/SS pin voltage. Connect the feedback resistor divider taps to these pins.", 8 DRV2 (out) "The DRV pins provide the base drive for the external NPN transistorfor the LDO regulators. The DRV pins can provide up to 6V of base drive.", 9 LIM2 (in) "The LIM pins provide current limiting on the LDO pass transistors by sensing a voltage on an external sense resistor connected to the BIAS pin. These pins should be connected to BIAS if this function is not used.", 10 GND (power) "Power and Signal Ground.", 11 GND (power) "Power and Signal Ground.", 12 GND (power) "Power and Signal Ground.", 13 GND (power) "Power and Signal Ground.", 14 LIM3 (in) "The LIM pins provide current limiting on the LDO pass transistors by sensing a voltage on an external sense resistor connected to the BIAS pin. These pins should be connected to BIAS if this function is not used.", 15 DRV3 (out) "The DRV pins provide the base drive for the external NPN transistorfor the LDO regulators. The DRV pins can provide up to 6V of base drive.", 16 FB3 (in) "Negative Inputs of the Error Amplifiers. The LT3694 regulates each feedback pin to the lesser of 0.75V or the corresponding TRK/SS pin voltage. Connect the feedback resistor divider taps to these pins.", 17 TRK/SS3 (in) "The TRK/SS pins allow a regulator to track the output of another regulator. When the TRK/SS pin is below 0.75V, the FB pin regulates to the TRK/SS voltage. This pin can also be used as a soft-start by connecting a capacitor (See Datasheet)", 18 FB1 (in) "Negative Inputs of the Error Amplifiers. The LT3694 regulates each feedback pin to the lesser of 0.75V or the corresponding TRK/SS pin voltage. Connect the feedback resistor divider taps to these pins.", 19 VC1 "Output of the Internal Error Amp. The voltage on this pin controls the peak switch current. This pin is normally used to compensate the control loop. The switching regulator can be shut down by pulling the VC1 pin to ground (See Datasheet)", 20 BIAS (power) "The BIAS pin supplies the current to the LT3694’s internal regulator and boost circuits. This must be connected to a voltage source above 3V, usually to VOUT1. The LDO pass transistor base current will also come from th(See Datasheet)", 21 BST "The BST pin is used to provide a drive voltage, higher than the input voltage, to the internal bipolar NPN power switch.", 22 DA "The DA pin senses the catch diode current to prevent excessive inductor current in output overload or short-circuit conditions.", 23 SW (power) "Output of the Internal Power Switch. Connect this pin to the inductor and switching diode.", 24 SW (power) "Output of the Internal Power Switch. Connect this pin to the inductor and switching diode.", 25 GND (power) "Power and Signal Ground.", 26 GND (power) "Power and Signal Ground.", 27 VIN (power) "The VIN pin supplies power to the internal switch of the 2.6A regulator and to the LT3694’s internal reference and start-up circuitry. This pin must be locally bypassed.", 28 VIN (power) "The VIN pin supplies power to the internal switch of the 2.6A regulator and to the LT3694’s internal reference and start-up circuitry. This pin must be locally bypassed.", 29 EP (power) "Ground. The underside exposed pad metal of the package provides both electrical contact to ground and a conductive thermal path to the printed circuit board. The Exposed Pad must be soldered to a grounded pad on the circuit (See Datasheet)"